# EAGLE library part SPARK_CORE (library Spark)
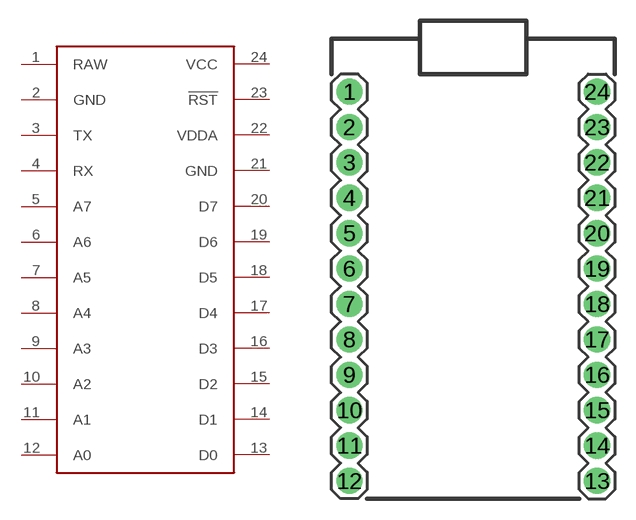
[diagram p4: symbol with the pads of SPARK_CORE; footprint SPARK_CORE]

Designator prefix -

## SPARK_CORECORE  [SPARK_CORE]
1  RAW  pwr
2  GND  pwr
3  TX
4  RX
5  A7
6  A6
7  A5
8  A4
9  A3
10  A2
11  A1
12  A0
13  D0
14  D1
15  D2
16  D3
17  D4
18  D5
19  D6
20  D7
21  GND  pwr
22  VDDA  pwr
23  !RST
24  VCC  pwr

## Footprint SPARK_CORE (pad centres in mm)
drill 1.016 pad 1.88: 1 -8.89,13.97; 2 -8.89,11.43; 3 -8.89,8.89; 4 -8.89,6.35; 5 -8.89,3.81; 6 -8.89,1.27; 7 -8.89,-1.27; 8 -8.89,-3.81; 9 -8.89,-6.35; 10 -8.89,-8.89; 11 -8.89,-11.43; 12 -8.89,-13.97; 13 8.89,-13.97; 14 8.89,-11.43; 15 8.89,-8.89; 16 8.89,-6.35; 17 8.89,-3.81; 18 8.89,-1.27; 19 8.89,1.27; 20 8.89,3.81; 21 8.89,6.35; 22 8.89,8.89; 23 8.89,11.43; 24 8.89,13.97